# Altium integrated library MC33887.IntLib: 1 symbol
Pins are listed as number, name and electrical type; pins without a type are passive.

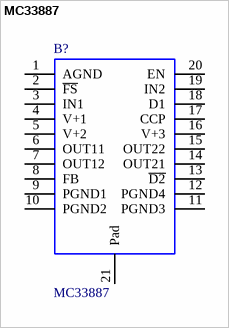
[diagram p0: symbol MC33887]

## MC33887
designator B?
Motor / Motion / Ignition Controllers & Drivers 5.0 A H-BRIDGE; Manufacturer_Name: NXP; Geometry.Height: 3.4mm; Manufacturer_Part_Number: MC33887; RS Part Number: *; RS Price/Stock: *; Arrow Part Number: MC33887; Arrow Price/Stock: *; Datasheet Link: https://www.nxp.com/docs/en/data-sheet/MC33887.pdf
footprint SOIC127P1420X340-21N
pins: 1 AGND, 2 ~{FS}, 3 IN1, 4 V+1, 5 V+2, 6 OUT11, 7 OUT12, 8 FB, 9 PGND1, 10 PGND2, 11 PGND3, 12 PGND4, 13 ~{D2}, 14 OUT21, 15 OUT22, 16 V+3, 17 CCP, 18 D1, 19 IN2, 20 EN, 21 Pad